# EAGLE library part PRESTAVNIK (library KMZ)
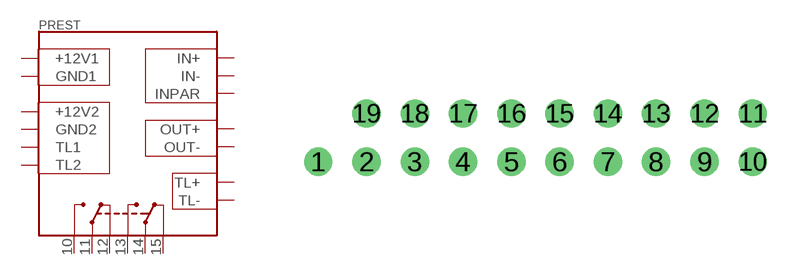
[diagram p2: symbol with the pads of PRESTKMZ; footprint PRESTKMZ]

Designator prefix PREST

## PRESTAVNIK  [PRESTKMZ]
1  +12V1  pwr
2  +12V2  out
3  GND1  pas
4  GND2  out
5  IN+  in
6  IN-  in
7  INPAR  in
8  OUT+  out
9  OUT-  out
10  RE11
11  RE12
12  RE13
13  RE21
14  RE22
15  RE23
16  TL+
17  TL-
18  TL1
19  TL2

## Footprint PRESTKMZ (pad centres in mm)
drill 0.889 pad 1.499 round: 1 -11.43,-1.27; 2 -8.89,-1.27; 3 -6.35,-1.27; 4 -3.81,-1.27; 5 -1.27,-1.27; 6 1.27,-1.27; 7 3.81,-1.27; 8 6.35,-1.27; 9 8.89,-1.27; 10 11.43,-1.27; 11 11.43,1.27; 12 8.89,1.27; 13 6.35,1.27; 14 3.81,1.27; 15 1.27,1.27; 16 -1.27,1.27; 17 -3.81,1.27; 18 -6.35,1.27; 19 -8.89,1.27